# Altium footprint library CAPC1608X90.PcbLib: 6 footprints
Each footprint in its own frame and in the unit in brackets; x right, y up, seen from the top. Pads: shape width x height; smd on the part's side, far side on the other; paste and mask are expansions set on the pad; w line width, h text height; cw(c..) or ccw(c..) is an arc to the next point about the centre after c.
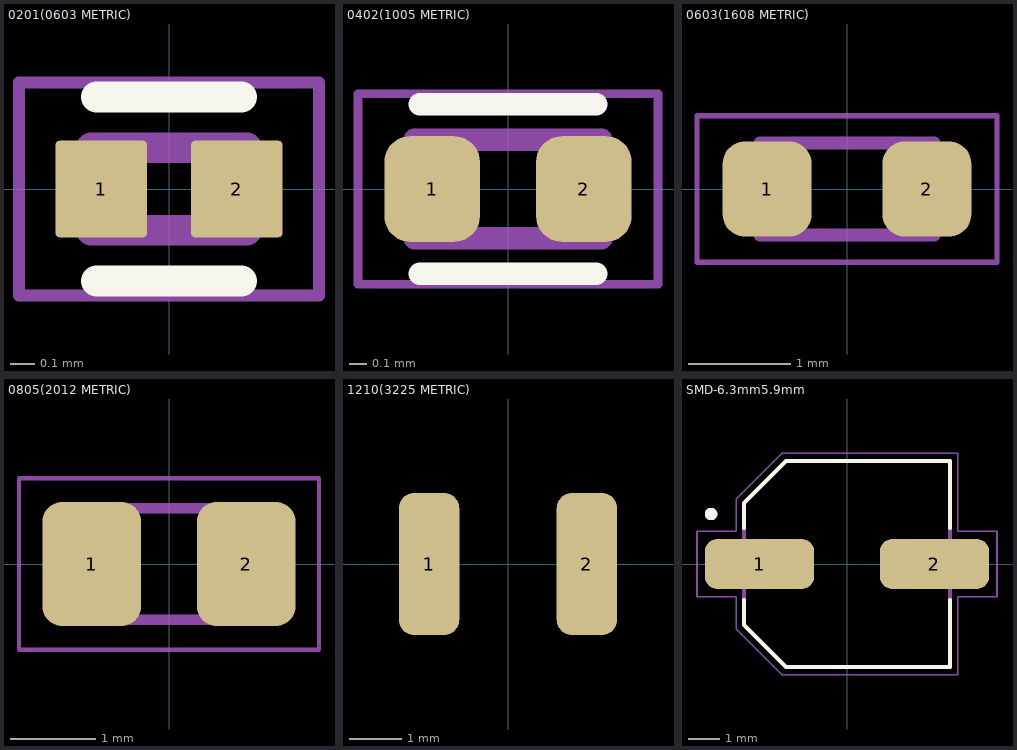
[diagram p0: the footprints below, top view; thin cyan lines are the x and y axes]

## 0201(0603 METRIC) [mm]
pads (2):
  rrect10% 0.38x0.4 smd: 1(-0.28,0) 2(0.28,0)
Top Overlay:
  lines w0.127: -0.3,-0.38 0.3,-0.38 ; -0.3,0.38 0.3,0.38
Mechanical 13:
  lines w0.127: -0.32,-0.17 -0.32,0.17 0.32,0.17 0.32,-0.17 -0.32,-0.17
Mechanical 15:
  lines w0.05: -0.62,-0.44 -0.62,0.44 0.62,0.44 0.62,-0.44 -0.62,-0.44
3D body "GRM033R71C131JA01J.STEP": height 0.29, standoff -0.01, extent -0.3,-0.165 0.3,0.165

## 0402(1005 METRIC) [mm]
pads (2):
  rrect53% 0.54x0.6 smd: 1(-0.43,0) 2(0.43,0)
Top Overlay:
  lines w0.127: -0.5,-0.48 0.5,-0.48 ; -0.5,0.48 0.5,0.48
Mechanical 13:
  lines w0.127: -0.53,-0.28 -0.53,0.28 0.53,0.28 0.53,-0.28 -0.53,-0.28
Mechanical 15:
  lines w0.05: -0.85,-0.54 -0.85,0.54 0.85,0.54 0.85,-0.54 -0.85,-0.54
3D body "CL05A106MP5NUNC.STEP": height 0.55, standoff 0, extent -0.5,-0.25 0.5,0.25

## 0603(1608 METRIC) [mm]
pads (2):
  rrect50% 0.87x0.93 smd: 1(-0.78,0) 2(0.78,0)
Mechanical 13:
  lines w0.127: -0.85,-0.45 0.85,-0.45 0.85,0.45 -0.85,0.45 -0.85,-0.45
Mechanical 15:
  lines w0.05: -1.465,-0.715 1.465,-0.715 1.465,0.715 -1.465,0.715 -1.465,-0.715
3D body "step_temp.STEP": height 0.89, standoff -0.01, extent -0.8,-0.4 0.8,0.4

## 0805(2012 METRIC) [mm]
pads (2):
  rrect40% 1.15x1.45 smd: 1(-0.9,0) 2(0.9,0)
Mechanical 13:
  lines w0.127: -1,-0.65 -1,0.65 1,0.65 1,-0.65 -1,-0.65
Mechanical 15:
  lines w0.05: -1.75,-1 -1.75,1 1.75,1 1.75,-1 -1.75,-1
3D body "LD05YC225KAB2A.STEP": height 0.94, standoff 0, extent -1.005,-0.625 1.005,0.625

## 1210(3225 METRIC) [mm]
pads (2):
  rrect50% 1.15x2.7 smd: 1(-1.5,0) 2(1.5,0)
3D body "step_temp.STEP": height 1.9, standoff 0, extent -1.6,-1.25 1.6,1.25

## SMD-6.3mm5.9mm [mm] "Radial Aluminium Capacitor"
pads (2):
  rrect50% 3.5x1.6 smd: 1(-2.8,0) 2(2.8,0)
Top Overlay:
  circle w0.2: c-4.35,1.6 r0.1
  lines w0.127: -3.3,-1.15 -3.3,-1.95 -1.95,-3.3 3.3,-3.3 3.3,-1.15 ; -3.3,1.15 -3.3,1.95 -1.95,3.3 3.3,3.3 3.3,1.15
Mechanical 13:
  circle w0.2: c-4.35,1.6 r0.1
  lines w0.127: -3.3,-1.95 -1.95,-3.3 3.3,-3.3 3.3,3.3 -1.95,3.3 -3.3,1.95 -3.3,-1.95
Mechanical 15:
  lines w0.05: -4.8,-1.05 -3.55,-1.05 -3.55,-2.075 -2.075,-3.55 3.55,-3.55 3.55,-1.05 4.8,-1.05 4.8,1.05 3.55,1.05 3.55,3.55 -2.075,3.55 -3.55,2.075 -3.55,1.05 -4.8,1.05 -4.8,-1.05
3D body "20SVPF120M.STEP": height 5.9, standoff 0, extent -3.65,-3.3 3.65,3.3